# EAGLE library part M32X1 (library nall)
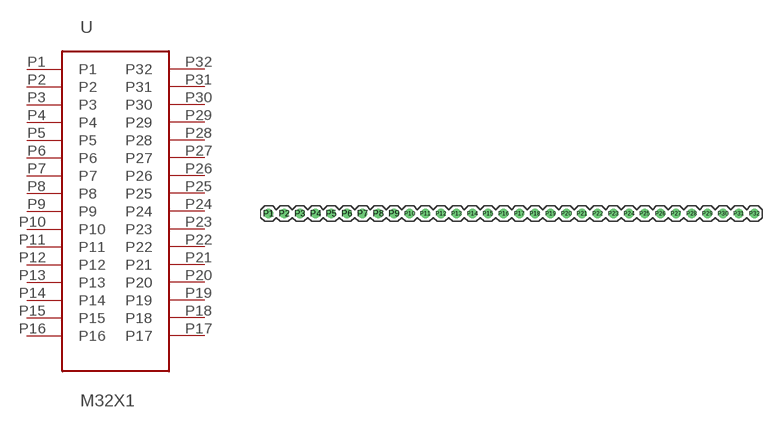
[diagram p3: symbol with the pads of 1X32; footprint 1X32]

Designator prefix -

## M32X1  [1X32]
P1  P1  pas
P2  P2  pas
P3  P3  pas
P4  P4  pas
P5  P5  pas
P6  P6  pas
P7  P7  pas
P8  P8  pas
P9  P9  pas
P10  P10  pas
P11  P11  pas
P12  P12  pas
P13  P13  pas
P14  P14  pas
P15  P15  pas
P16  P16  pas
P17  P17  pas
P18  P18  pas
P19  P19  pas
P20  P20  pas
P21  P21  pas
P22  P22  pas
P23  P23  pas
P24  P24  pas
P25  P25  pas
P26  P26  pas
P27  P27  pas
P28  P28  pas
P29  P29  pas
P30  P30  pas
P31  P31  pas
P32  P32  pas

## Footprint 1X32 (pad centres in mm)
drill 1.016 round: P1 1.27,1.27; P2 3.81,1.27; P3 6.35,1.27; P4 8.89,1.27; P5 11.43,1.27; P6 13.97,1.27; P7 16.51,1.27; P8 19.05,1.27; P9 21.59,1.27; P10 24.13,1.27; P11 26.67,1.27; P12 29.21,1.27; P13 31.75,1.27; P14 34.29,1.27; P15 36.83,1.27; P16 39.37,1.27; P17 41.91,1.27; P18 44.45,1.27; P19 46.99,1.27; P20 49.53,1.27; P21 52.07,1.27; P22 54.61,1.27; P23 57.15,1.27; P24 59.69,1.27; P25 62.23,1.27; P26 64.77,1.27; P27 67.31,1.27; P28 69.85,1.27; P29 72.39,1.27; P30 74.93,1.27; P31 77.47,1.27; P32 80.01,1.27